# EAGLE library part NACHTELK_TIMER_NE555 (library Nachtelk_Oscillator_Timer)
Nacht Elk. - Oscillator Timers Ekrem Turan Fırat Nacht Elk. - NE555 Operating Voltage: 4,5V up to 16V Operating temperature: 0 °C up to +75°C Package: DIP-8, SOIC-8 Datasheet <https://www.ti.com/lit/ds/symlink/ne555.pdf> 16.03.2022
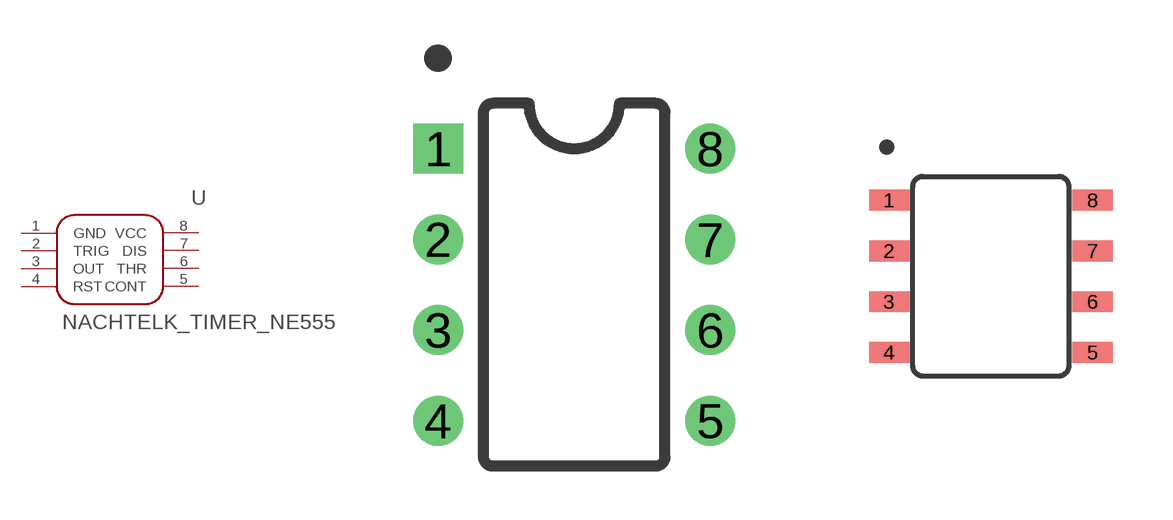
[diagram p0: symbol with the pads of DIP-8; footprints DIP-8, SOIC-8]

Designator prefix U

## NACHTELK_TIMER_NE555_DIP-8 (DIGI-KEY_NUMBER: 296-NE555P-ND; MOUNT-TYPE: DIP; PACKAGE: DIP-8; PART-NUMBER: NE555P; TEMPERATURE: 0 °C up to +75°C; VALUE: NE555; VOLTAGE: 4,5V up to 16V)  [DIP-8]
1  GND  pwr
2  TRIG  in
3  OUT  out
4  RST  in
5  CONT  in
6  THR  in
7  DIS  in
8  VCC  pwr

## NACHTELK_TIMER_NE555_SOIC-8 (DIGI-KEY_NUMBER: 296-6501-1-ND; MOUNT-TYPE: SMD; PACKAGE: SOIC-8; PART-NUMBER: NE555DR; TEMPERATURE: 0 °C up to +75°C; VALUE: NE555; VOLTAGE: 4,5V up to 16V)  [SOIC-8]
Pads as for DIP-8

## Footprint DIP-8 (pad centres in mm)
Nacht Elk. - Oscillator Timers Ekrem Turan Fırat Package: DIP-8 Dimensions(LxWxH): 9.66x6.4x3.65 mm 16.03.2022
drill 0.8 pad 1.4 square: 1 -3.81,3.81
drill 0.8 pad 1.4: 2 -3.81,1.27; 3 -3.81,-1.27; 4 -3.81,-3.81; 5 3.81,-3.81; 6 3.81,-1.27; 7 3.81,1.27; 8 3.81,3.81

## Footprint SOIC-8 (pad centres in mm)
Nacht Elk. - Oscillator Timers Ekrem Turan Fırat Package: DIP-8 Dimensions(LxWxH): 6.18x3.9x1.44 mm 04.05.2022
smd 1 x 0.52: 1 -2.5,1.865; 2 -2.5,0.595; 3 -2.5,-0.675; 4 -2.5,-1.945; 5 2.59,-1.945; 6 2.59,-0.675; 7 2.59,0.595; 8 2.59,1.865